# Altium integrated library NSC RF and IF Demodulator.IntLib: 1 symbol
Pins are listed as number, name and electrical type; pins without a type are passive.

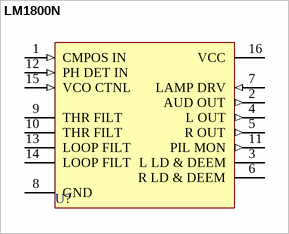
[diagram p0: symbol LM1800N]

## LM1800N
designator U?
Phase-Locked Loop FM Stereo Demodulator; Published: 15-Apr-2002; LatestRevisionDate: 06-Jun-2005; LatestRevisionNote: Stylized 3D Model Added.; DatasheetVersion: 1989; PackageVersion: 2000; PackageReference: N16A; Publisher: Altium Limited; PackageDescription: DIP; 16 Leads; Row Spacing 7.62 mm; Pitch 2.54 mm; ComponentLink1Description: Manufacturer Link; ComponentLink1URL: http://www.national.com/
footprint N16A (DIP; 16 Leads; Row Spacing 7.62 mm; Pitch 2.54 mm)
3D model N16A (DIP; 16 Leads; Row Spacing 7.62 mm; Pitch 2.54 mm)
pins: 1 CMPOS IN (in), 2 AUD OUT (out), 3 L LD & DEEM, 4 L OUT (out), 5 R OUT (out), 6 R LD & DEEM, 7 LAMP DRV (in), 8 GND (power), 9 THR FILT, 10 THR FILT, 11 PIL MON (out), 12 PH DET IN (in), 13 LOOP FILT, 14 LOOP FILT, 15 VCO CTNL (in), 16 VCC (power)